# EAGLE library part SIMM84 (library con-amp1)
AMP connector
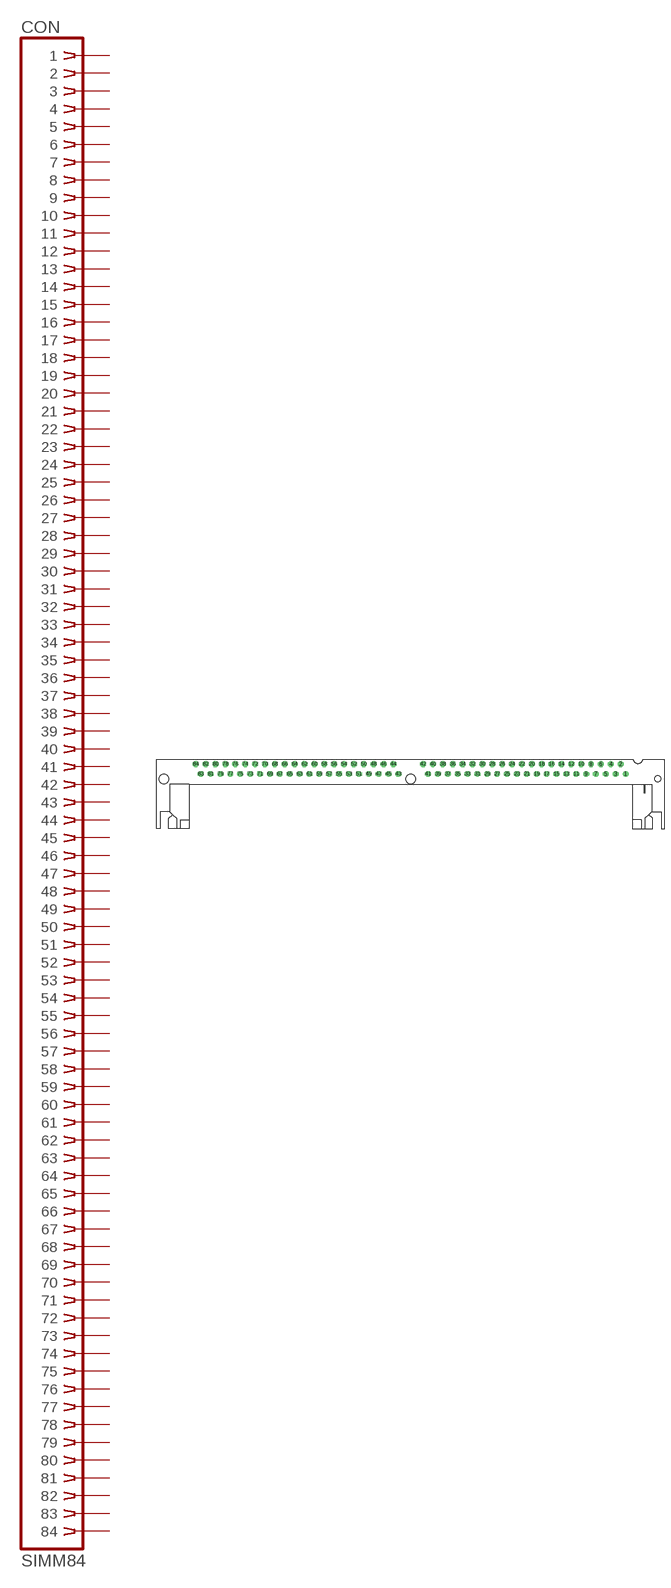
[diagram p14: symbol with the pads of 83824814; footprint 83824814]

Designator prefix CON

## SIMM84  [83824814]
1  1  pas
2  2  pas
3  3  pas
4  4  pas
5  5  pas
6  6  pas
7  7  pas
8  8  pas
9  9  pas
10  10  pas
11  11  pas
12  12  pas
13  13  pas
14  14  pas
15  15  pas
16  16  pas
17  17  pas
18  18  pas
19  19  pas
20  20  pas
21  21  pas
22  22  pas
23  23  pas
24  24  pas
25  25  pas
26  26  pas
27  27  pas
28  28  pas
29  29  pas
30  30  pas
31  31  pas
32  32  pas
33  33  pas
34  34  pas
35  35  pas
36  36  pas
37  37  pas
38  38  pas
39  39  pas
40  40  pas
41  41  pas
42  42  pas
43  43  pas
44  44  pas
45  45  pas
46  46  pas
47  47  pas
48  48  pas
49  49  pas
50  50  pas
51  51  pas
52  52  pas
53  53  pas
54  54  pas
55  55  pas
56  56  pas
57  57  pas
58  58  pas
59  59  pas
60  60  pas
61  61  pas
62  62  pas
63  63  pas
64  64  pas
65  65  pas
66  66  pas
67  67  pas
68  68  pas
69  69  pas
70  70  pas
71  71  pas
72  72  pas
73  73  pas
74  74  pas
75  75  pas
76  76  pas
77  77  pas
78  78  pas
79  79  pas
80  80  pas
81  81  pas
82  82  pas
83  83  pas
84  84  pas

## Footprint 83824814 (pad centres in mm)
SIMM II Socket
drill 1.016 round: 1 55.245,-1.27
drill 1.016 octagon: 2 53.975,1.27; 3 52.705,-1.27; 4 51.435,1.27; 5 50.165,-1.27; 6 48.895,1.27; 7 47.625,-1.27; 8 46.355,1.27; 9 45.085,-1.27; 10 43.815,1.27; 11 42.545,-1.27; 12 41.275,1.27; 13 40.005,-1.27; 14 38.735,1.27; 15 37.465,-1.27; 16 36.195,1.27; 17 34.925,-1.27; 18 33.655,1.27; 19 32.385,-1.27; 20 31.115,1.27; 21 29.845,-1.27; 22 28.575,1.27; 23 27.305,-1.27; 24 26.035,1.27; 25 24.765,-1.27; 26 23.495,1.27; 27 22.225,-1.27; 28 20.955,1.27; 29 19.685,-1.27; 30 18.415,1.27; 31 17.145,-1.27; 32 15.875,1.27; 33 14.605,-1.27; 34 13.335,1.27; 35 12.065,-1.27; 36 10.795,1.27; 37 9.525,-1.27; 38 8.255,1.27; 39 6.985,-1.27; 40 5.715,1.27; 41 4.445,-1.27; 42 3.175,1.27; 43 -3.175,-1.27; 44 -4.445,1.27; 45 -5.715,-1.27; 46 -6.985,1.27; 47 -8.255,-1.27; 48 -9.525,1.27; 49 -10.795,-1.27; 50 -12.065,1.27; 51 -13.335,-1.27; 52 -14.605,1.27; 53 -15.875,-1.27; 54 -17.145,1.27; 55 -18.415,-1.27; 56 -19.685,1.27; 57 -20.955,-1.27; 58 -22.225,1.27; 59 -23.495,-1.27; 60 -24.765,1.27; 61 -26.035,-1.27; 62 -27.305,1.27; 63 -28.575,-1.27; 64 -29.845,1.27; 65 -31.115,-1.27; 66 -32.385,1.27; 67 -33.655,-1.27; 68 -34.925,1.27; 69 -36.195,-1.27; 70 -37.465,1.27; 71 -38.735,-1.27; 72 -40.005,1.27; 73 -41.275,-1.27; 74 -42.545,1.27; 75 -43.815,-1.27; 76 -45.085,1.27; 77 -46.355,-1.27; 78 -47.625,1.27; 79 -48.895,-1.27; 80 -50.165,1.27; 81 -51.435,-1.27; 82 -52.705,1.27; 83 -53.975,-1.27; 84 -55.245,1.27
hole 2.438 at -63.5,-2.54
hole 1.575 at 63.5,-2.54
hole 2.438 at 0,-2.54